# Altium schematic symbol library DB9.SchLib: 1 symbol
Pins are listed as number, name and electrical type; pins without a type are passive.

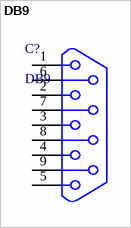
[diagram p0: symbol DB9]

## DB9
designator C?
DB9 Connector
footprint CON_DB9 (Footprint not found)
pins: 1, 2, 3, 4, 5, 6, 7, 8, 9